# Altium schematic symbol library LM4050AEM3-3.0+T.SchLib: 1 symbol
Pins are listed as number, name and electrical type; pins without a type are passive.

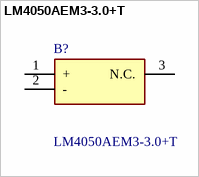
[diagram p0: symbol LM4050AEM3-3.0+T]

## LM4050AEM3-3.0+T
designator B?
50ppm/&deg;C (max) Temperature Coefficient Guaranteed over the -40&deg;C to +125&deg;C Temperature RangeUltra-Small 3-Pin SC70 Package0.1% (max) Initial AccuracyWide Operating Current Range: 60&micro;A to 15mALow 28&micro;VRMS Output Noise (10Hz to 10kHz)1.225V, 2.048V, 2.500V, 3.000V, 3.3V, 4.096V, and 5.000V Fixed Reverse Breakdown VoltagesNo Output Capacitors RequiredTolerates Capacitive LoadsAEC-Q100 Qualified, Refer to Ordering Information for the Specific /V Versions; Manufacturer_Name: Analog Devices; Geometry.Height: 1.12mm; Mouser Part Number: 700-LM4050AEM3-3.0T; Mouser Price/Stock: https://www.mouser.co.uk/ProductDetail/Maxim-Integrated/LM4050AEM3-3.0%2bT?qs=GxOUx7aO6nwirvG06jDdlw%3D%3D; Manufacturer_Part_Number: LM4050AEM3-3.0+T; Datasheet Link: https://www.analog.com/LM4050/datasheet
footprint SOT95P237X112-3N
pins: 1 +, 2 -, 3 N.C.